# EAGLE library part 71-10SP-1D (library switch-grayhill)
Rotary Switch Grayhill 71 Series, 10 Pos, 1 Pole, 1 Deck
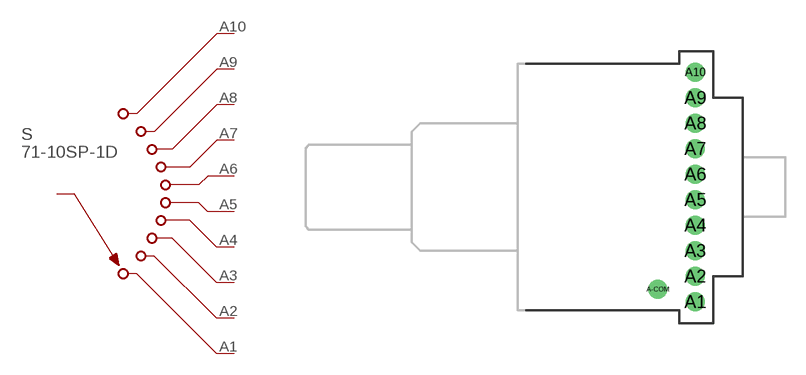
[diagram p2: symbol with the pads of 71-10-1D-1C; footprint 71-10-1D-1C]

Designator prefix S

## 71-10SP-1D  [71-10-1D-1C]
A1  1  pas
A2  2  pas
A3  3  pas
A4  4  pas
A5  5  pas
A6  6  pas
A7  7  pas
A8  8  pas
A9  9  pas
A10  10  pas
A-COM  COM  pas

## Footprint 71-10-1D-1C (pad centres in mm)
Grayhill 71 Series
drill 0.813 pad 1.422: A1 2.794,-8.572; A2 2.794,-6.668; A3 2.794,-4.763; A4 2.794,-2.857; A5 2.794,-0.953; A6 2.794,0.953; A7 2.794,2.857; A8 2.794,4.763; A9 2.794,6.668; A10 2.794,8.572; A-COM 0,-7.62